# EAGLE library part 750311215 (library Wurth Electronics Midcom Inc V1-0)
Package Style: Non Standard EFD20 15W Mounting: THT Pins: 8 pins Bobbin: 070-2609 Windings Primary: Aux: Secondary: Best pinouts for production vary per application. Please contact Wurth Electronics Midcom, Inc. for assistance with your custom design. Datasheet: 750311215 <http://www.we-online.com/web/en/index.php/show/media/passive_components_-_custom_magnetics/pdf_doc_files/spec_sheets/7503/750311215.pdf> Website: Wurth Electronics Midcom <http://www.we-online.com/midcom> Contact us Wurth Electronics Midcom, Inc. 121 Airport Dr. Watertown, SD 57201 Phone: (605) 886-4385 Fax: (605) 886-4486 E-Mail: midcom@we-online.com
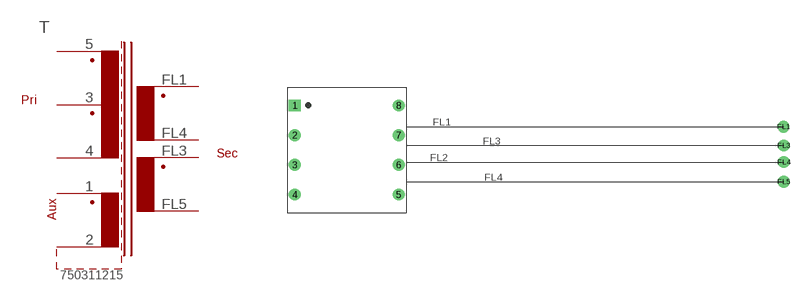
[diagram p59: symbol with the pads of 99NONSTANDARD_EFD20_THT_8PIN_FL; footprint 99NONSTANDARD_EFD20_THT_8PIN_FL]

Designator prefix T

## 750311215  [99NONSTANDARD_EFD20_THT_8PIN_FL]
1  4  pas
2  5  pas
3  2  pas
4  3  pas
5  1  pas
FL1  6  pas
FL3  8  pas
FL4  7  pas
FL5  9  pas

## Footprint 99NONSTANDARD_EFD20_THT_8PIN_FL (pad centres in mm)
Package Style: Non-standard EFD20 Mounting: THT W/Flying Leads Pins: 8
drill 1.321 square: 1 -8.75,7.506
drill 1.321 round: 2 -8.75,2.502; 3 -8.75,-2.502; 4 -8.75,-7.506; 5 8.75,-7.506; 6 8.75,-2.502; 7 8.75,2.502; 8 8.75,7.506; FL1 73.508,3.937; FL3 73.558,0.762; FL4 73.558,-2.032; FL5 73.558,-5.334